# Altium footprint library AltiumDesigner.PcbLib: 151 footprints (part 5 of 10)
Each footprint in its own frame and in the unit in brackets; x right, y up, seen from the top. Pads: shape width x height; smd on the part's side, far side on the other; paste and mask are expansions set on the pad; w line width, h text height; cw(c..) or ccw(c..) is an arc to the next point about the centre after c.
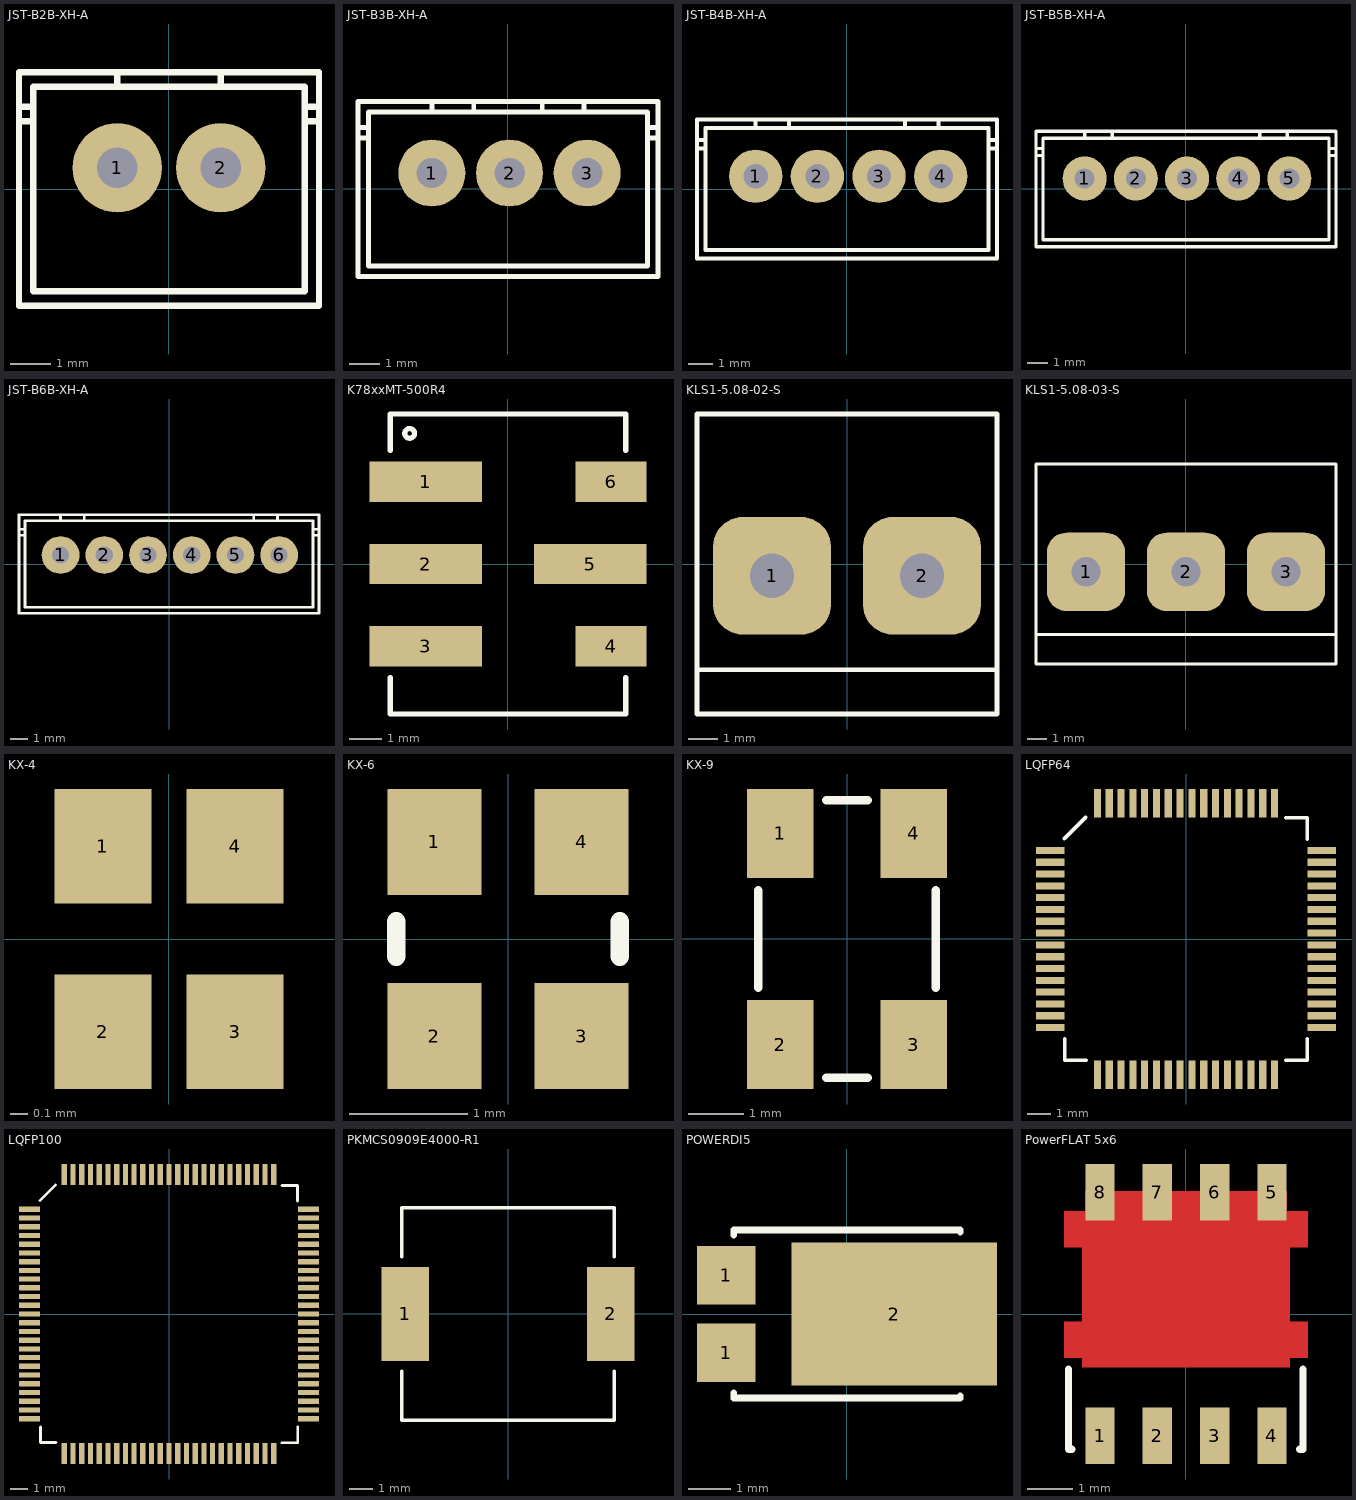
[diagram p4: the footprints below, top view; thin cyan lines are the x and y axes]

## JST-B2B-XH-A [mm]
pads (2):
  round 2.2 hole 1: 1(-1.275,0.525) 2(1.275,0.525)
Top Overlay:
  lines w0.16: -3.7,1.675 -3.35,1.675 ; -3.7,2.025 -3.35,2.025 ; -1.275,2.525 -1.275,2.875 ; 1.275,2.525 1.275,2.875 ; 3.35,1.675 3.7,1.675 ; 3.35,2.025 3.7,2.025 ; -3.7,-2.875 3.7,-2.875 3.7,2.875 -3.7,2.875 -3.7,-2.875 ; -3.35,-2.525 -3.35,2.525 3.35,2.525 3.35,-2.525 -3.35,-2.525

## JST-B3B-XH-A [mm]
pads (3):
  round 2.2 hole 1: 1(-2.5,0.525) 2(0.05,0.525) 3(2.6,0.525)
Top Overlay:
  lines w0.16: -4.925,1.675 -4.575,1.675 ; -4.925,2.025 -4.575,2.025 ; -2.5,2.525 -2.5,2.875 ; -1.125,2.525 -1.125,2.875 ; 1.125,2.525 1.125,2.875 ; 2.5,2.525 2.5,2.875 ; 4.575,1.675 4.925,1.675 ; 4.575,2.025 4.925,2.025 ; -4.925,-2.875 4.925,-2.875 4.925,2.875 -4.925,2.875 -4.925,-2.875 ; -4.575,-2.525 -4.575,2.525 4.575,2.525 4.575,-2.525 -4.575,-2.525

## JST-B4B-XH-A [mm]
pads (4):
  round 2.2 hole 1: 1(-3.775,0.525) 2(-1.225,0.525) 3(1.325,0.525) 4(3.875,0.525)
Top Overlay:
  lines w0.16: -6.2,1.675 -5.85,1.675 ; -6.2,2.025 -5.85,2.025 ; -3.775,2.525 -3.775,2.875 ; -2.4,2.525 -2.4,2.875 ; 2.4,2.525 2.4,2.875 ; 3.775,2.525 3.775,2.875 ; 5.85,1.675 6.2,1.675 ; 5.85,2.025 6.2,2.025 ; -6.2,-2.875 6.2,-2.875 6.2,2.875 -6.2,2.875 -6.2,-2.875 ; -5.85,-2.525 -5.85,2.525 5.85,2.525 5.85,-2.525 -5.85,-2.525

## JST-B5B-XH-A [mm]
pads (5):
  round 2.2 hole 1: 1(-5.05,0.525) 2(-2.5,0.525) 3(0.05,0.525) 4(2.6,0.525) 5(5.15,0.525)
Top Overlay:
  lines w0.16: -7.475,1.675 -7.125,1.675 ; -7.475,2.025 -7.125,2.025 ; -5.05,2.525 -5.05,2.875 ; -3.675,2.525 -3.675,2.875 ; 3.675,2.525 3.675,2.875 ; 5.05,2.525 5.05,2.875 ; 7.125,1.675 7.475,1.675 ; 7.125,2.025 7.475,2.025 ; -7.475,-2.875 -7.475,2.875 7.475,2.875 7.475,-2.875 -7.475,-2.875 ; -7.125,-2.525 7.125,-2.525 7.125,2.525 -7.125,2.525 -7.125,-2.525

## JST-B6B-XH-A [mm]
pads (6):
  round 2.2 hole 1: 1(-6.325,0.525) 2(-3.775,0.525) 3(-1.225,0.525) 4(1.325,0.525) 5(3.875,0.525) 6(6.425,0.525)
Top Overlay:
  lines w0.16: -8.75,1.675 -8.4,1.675 ; -8.75,2.025 -8.4,2.025 ; -6.325,2.525 -6.325,2.875 ; -4.95,2.525 -4.95,2.875 ; 4.95,2.525 4.95,2.875 ; 6.325,2.525 6.325,2.875 ; 8.4,1.675 8.75,1.675 ; 8.4,2.025 8.75,2.025 ; -8.75,-2.875 -8.75,2.875 8.75,2.875 8.75,-2.875 -8.75,-2.875 ; -8.4,-2.525 8.4,-2.525 8.4,2.525 -8.4,2.525 -8.4,-2.525

## K78xxMT-500R4 [mm]
pads (6):
  rect 3.5x1.25 smd paste-1: 1(-2.55,2.55) 2(-2.55,0) 3(-2.55,-2.55) 5(2.55,0)
  rect 2.2x1.25 smd paste-1: 4(3.2,-2.55) 6(3.2,2.55)
Top Overlay:
  circle w0.16: c-3.05,4.05 r0.15
  lines w0.16: -3.65,-3.525 -3.65,-4.65 3.65,-4.65 3.65,-3.525 ; -3.65,3.525 -3.65,4.65 3.65,4.65 3.65,3.525

## KLS1-5.08-02-S [mm]
pads (2):
  rrect50% 4x4 hole 1.5: 1(-2.55,-0.4) 2(2.55,-0.4)
Top Overlay:
  lines w0.16: -5.1,-3.6 5.1,-3.6 ; -5.1,-5.1 -5.1,5.1 5.1,5.1 5.1,-5.1 -5.1,-5.1

## KLS1-5.08-03-S [mm]
pads (3):
  rrect50% 4x4 hole 1.5: 1(-5.1,-0.4) 2(0,-0.4) 3(5.1,-0.4)
Top Overlay:
  lines w0.16: -7.65,-3.6 7.65,-3.6 ; -7.65,-5.1 -7.65,5.1 7.65,5.1 7.65,-5.1 -7.65,-5.1

## KX-4 [mm]
pads (4):
  rect 0.55x0.65 smd paste-1: 1(-0.375,0.525) 2(-0.375,-0.525) 3(0.375,-0.525) 4(0.375,0.525)
Top Paste:
  region: 0.125,0.825 0.125,0.225 0.625,0.225 0.625,0.825
  region: 0.125,-0.225 0.125,-0.825 0.625,-0.825 0.625,-0.225
  region: -0.625,-0.225 -0.625,-0.825 -0.125,-0.825 -0.125,-0.225
  region: -0.625,0.825 -0.625,0.225 -0.125,0.225 -0.125,0.825

## KX-6 [mm]
pads (4):
  rect 0.8x0.9 smd: 1(-0.625,0.825) 2(-0.625,-0.825) 3(0.625,-0.825) 4(0.625,0.825)
Top Overlay:
  lines w0.16: -0.95,-0.15 -0.95,0.15 ; 0.95,-0.15 0.95,0.15

## KX-9 [mm]
pads (4):
  rect 1.2x1.6 smd: 1(-1.2,1.9) 2(-1.2,-1.9) 3(1.2,-1.9) 4(1.2,1.9)
Top Overlay:
  lines w0.15: -1.6,-0.875 -1.6,0.875 ; -0.375,-2.5 0.375,-2.5 ; -0.375,2.5 0.375,2.5 ; 1.6,-0.875 1.6,0.875

## LQFP64 [mm]
pads (64):
  rect 1.2x0.3 smd: 1(-5.75,3.75) 2(-5.75,3.25) 3(-5.75,2.75) 4(-5.75,2.25) 5(-5.75,1.75) 6(-5.75,1.25) 7(-5.75,0.75) 8(-5.75,0.25) 9(-5.75,-0.25) 10(-5.75,-0.75) 11(-5.75,-1.25) 12(-5.75,-1.75) 13(-5.75,-2.25) 14(-5.75,-2.75) 15(-5.75,-3.25) 16(-5.75,-3.75) 33(5.75,-3.75) 34(5.75,-3.25) 35(5.75,-2.75) 36(5.75,-2.25) 37(5.75,-1.75) 38(5.75,-1.25) 39(5.75,-0.75) 40(5.75,-0.25) 41(5.75,0.25) 42(5.75,0.75) 43(5.75,1.25) 44(5.75,1.75) 45(5.75,2.25) 46(5.75,2.75) 47(5.75,3.25) 48(5.75,3.75)
  rect 0.3x1.2 smd: 17(-3.75,-5.75) 18(-3.25,-5.75) 19(-2.75,-5.75) 20(-2.25,-5.75) 21(-1.75,-5.75) 22(-1.25,-5.75) 23(-0.75,-5.75) 24(-0.25,-5.75) 25(0.25,-5.75) 26(0.75,-5.75) 27(1.25,-5.75) 28(1.75,-5.75) 29(2.25,-5.75) 30(2.75,-5.75) 31(3.25,-5.75) 32(3.75,-5.75) 49(3.75,5.75) 50(3.25,5.75) 51(2.75,5.75) 52(2.25,5.75) 53(1.75,5.75) 54(1.25,5.75) 55(0.75,5.75) 56(0.25,5.75) 57(-0.25,5.75) 58(-0.75,5.75) 59(-1.25,5.75) 60(-1.75,5.75) 61(-2.25,5.75) 62(-2.75,5.75) 63(-3.25,5.75) 64(-3.75,5.75)
Top Overlay:
  lines w0.16: -5.15,4.25 -4.25,5.15 ; -5.131,-4.234 -5.131,-5.131 -4.234,-5.131 ; 4.234,-5.131 5.131,-5.131 5.131,-4.234 ; 4.234,5.131 5.131,5.131 5.131,4.234

## LQFP100 [mm]
pads (100):
  rect 1.2x0.3 smd: 1(-8,6) 2(-8,5.5) 3(-8,5) 4(-8,4.5) 5(-8,4) 6(-8,3.5) 7(-8,3) 8(-8,2.5) 9(-8,2) 10(-8,1.5) 11(-8,1) 12(-8,0.5) 13(-8,0) 14(-8,-0.5) 15(-8,-1) 16(-8,-1.5) 17(-8,-2) 18(-8,-2.5) 19(-8,-3) 20(-8,-3.5) 21(-8,-4) 22(-8,-4.5) 23(-8,-5) 24(-8,-5.5) 25(-8,-6) 51(8,-6) 52(8,-5.5) 53(8,-5) 54(8,-4.5) 55(8,-4) 56(8,-3.5) 57(8,-3) 58(8,-2.5) 59(8,-2) 60(8,-1.5) 61(8,-1) 62(8,-0.5) 63(8,0) 64(8,0.5) 65(8,1) 66(8,1.5) 67(8,2) 68(8,2.5) 69(8,3) 70(8,3.5) 71(8,4) 72(8,4.5) 73(8,5) 74(8,5.5) 75(8,6)
  rect 0.3x1.2 smd: 26(-6,-8) 27(-5.5,-8) 28(-5,-8) 29(-4.5,-8) 30(-4,-8) 31(-3.5,-8) 32(-3,-8) 33(-2.5,-8) 34(-2,-8) 35(-1.5,-8) 36(-1,-8) 37(-0.5,-8) 38(0,-8) 39(0.5,-8) 40(1,-8) 41(1.5,-8) 42(2,-8) 43(2.5,-8) 44(3,-8) 45(3.5,-8) 46(4,-8) 47(4.5,-8) 48(5,-8) 49(5.5,-8) 50(6,-8) 76(6,8) 77(5.5,8) 78(5,8) 79(4.5,8) 80(4,8) 81(3.5,8) 82(3,8) 83(2.5,8) 84(2,8) 85(1.5,8) 86(1,8) 87(0.5,8) 88(0,8) 89(-0.5,8) 90(-1,8) 91(-1.5,8) 92(-2,8) 93(-2.5,8) 94(-3,8) 95(-3.5,8) 96(-4,8) 97(-4.5,8) 98(-5,8) 99(-5.5,8) 100(-6,8)
Top Overlay:
  lines w0.16: -7.4,6.5 -6.5,7.4 ; -7.375,-6.477 -7.375,-7.373 -6.479,-7.373 ; 6.475,7.375 7.371,7.375 7.371,6.479 ; 6.481,-7.379 7.377,-7.379 7.377,-6.483

## PKMCS0909E4000-R1 [mm]
pads (2):
  rect 2x4 smd: 1(-4.35,0) 2(4.35,0)
Top Overlay:
  lines w0.16: -4.5,-2.425 -4.5,-4.5 4.5,-4.5 4.5,-2.425 ; -4.5,2.425 -4.5,4.5 4.5,4.5 4.5,2.425

## POWERDI5 [mm]
pads (3):
  rect 1.4x1.4 smd: 1(-2.875,-0.925) 1(-2.875,0.925)
  rect 4.9x3.4 smd: 2(1.125,0)
Top Overlay:
  lines w0.16: -2.7,-1.875 -2.7,-2 2.7,-2 2.7,-1.95 ; -2.7,1.875 -2.7,2 2.7,2 2.7,1.95

## PowerFLAT 5x6 [mm]
pads (8):
  rect 0.65x1.25 smd: 1(-1.9,-2.7) 2(-0.63,-2.7) 3(0.64,-2.7) 4(1.91,-2.7) 5(1.91,2.7) 6(0.64,2.7) 7(-0.63,2.7) 8(-1.9,2.7)
Top Layer:
  region: -2.295,-1.175 2.305,-1.175 2.305,-0.975 2.705,-0.975 2.705,-0.175 2.305,-0.175 2.305,1.475 2.705,1.475 2.705,2.275 2.235,2.275 2.235,2.725 1.58,2.725 0.955,2.725 0.305,2.725 -0.295,2.725 -0.945,2.725 -1.57,2.725 -2.225,2.725 -2.225,2.275 -2.695,2.275 -2.695,1.475 -2.295,1.475 -2.295,-0.175 -2.695,-0.175 -2.695,-0.975 -2.295,-0.975
Top Overlay:
  lines w0.16: -2.6,-1.225 -2.6,-3 -2.525,-3 ; 2.525,-3 2.6,-3 2.6,-1.225